# EAGLE library part 3PDT (library matlock)
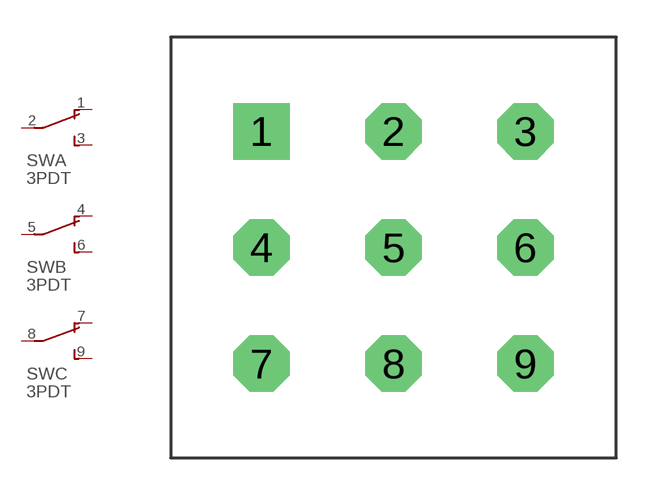
[diagram p8: symbol with the pads of 3PDT-STOMP-SWITCH; footprint 3PDT-STOMP-SWITCH]

Designator prefix SW; gates A=SPDT B=SPDT C=SPDT

## 3PDT  [3PDT-STOMP-SWITCH]
1  A:O  pas
2  A:P  pas
3  A:S  pas
4  B:O  pas
5  B:P  pas
6  B:S  pas
7  C:O  pas
8  C:P  pas
9  C:S  pas

## Footprint 3PDT-STOMP-SWITCH (pad centres in mm)
drill 1.524 square: 1 -5.334,4.699
drill 1.524 octagon: 2 0,4.699; 3 5.334,4.699; 4 -5.334,0; 5 0,0; 6 5.334,0; 7 -5.334,-4.699; 8 0,-4.699; 9 5.334,-4.699